# Altium footprint library TFBS4711.PcbLib: 1 footprints
Each footprint in its own frame and in the unit in brackets; x right, y up, seen from the top. Pads: shape width x height; smd on the part's side, far side on the other; paste and mask are expansions set on the pad; w line width, h text height; cw(c..) or ccw(c..) is an arc to the next point about the centre after c.
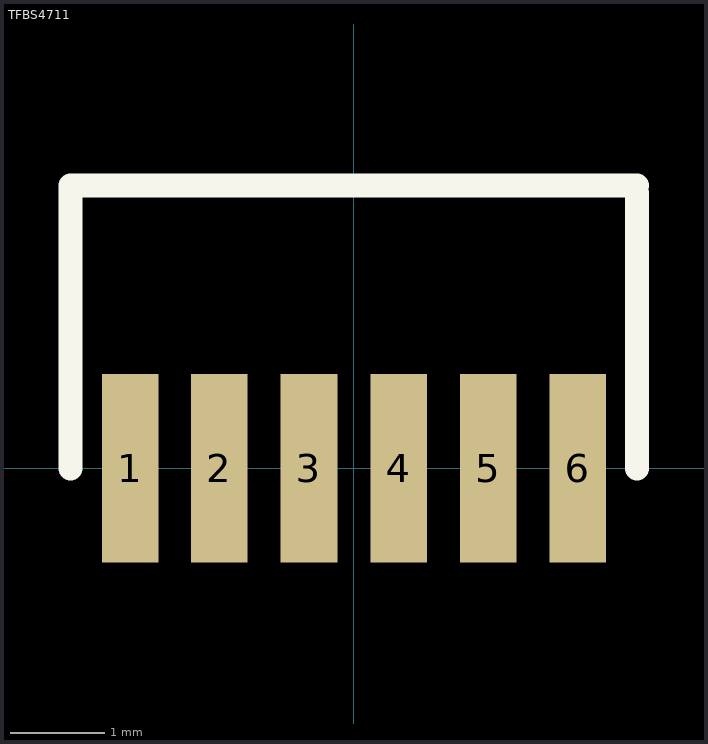
[diagram p0: the footprint, top view; thin cyan lines are the x and y axes]

## TFBS4711 [mm]
pads (6):
  rect 0.6x2 smd: 1(-2.37,0) 2(-1.425,0) 3(-0.475,0) 4(0.475,0) 5(1.425,0) 6(2.375,0)
Top Overlay:
  lines w0.254: -3,0 -3,3 3,3 ; 3,0 3,2.921